# EAGLE library part TESTADAPTER-24P (library con WAGO BMW)
Testadapter mit Pogo Pins um Kontakt mit Wago Leiste herzustellen
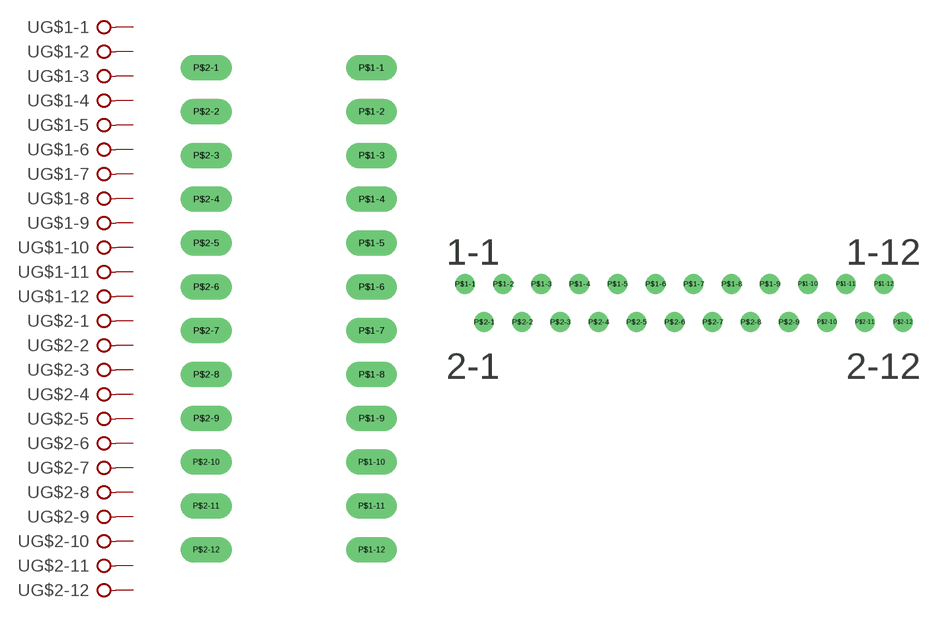
[diagram p1: symbol with the pads of 24-PIN-TESTADAPTER; footprints 24-PIN-TESTADAPTER, 24-PIN-ANSCHLUSS]

Designator prefix -; gates G$1-1=KL G$1-2=KL G$1-3=KL G$1-4=KL G$1-5=KL G$1-6=KL G$1-7=KL G$1-8=KL G$1-9=KL G$1-10=KL G$1-11=KL G$1-12=KL G$2-1=KL G$2-2=KL G$2-3=KL G$2-4=KL G$2-5=KL G$2-6=KL G$2-7=KL G$2-8=KL G$2-9=KL G$2-10=KL G$2-11=KL G$2-12=KL

## TESTADAPTER-24P  [24-PIN-TESTADAPTER]
P$1-1  G$1-1:KL  pas
P$1-2  G$1-2:KL  pas
P$1-3  G$1-3:KL  pas
P$1-4  G$1-4:KL  pas
P$1-5  G$1-5:KL  pas
P$1-6  G$1-6:KL  pas
P$1-7  G$1-7:KL  pas
P$1-8  G$1-8:KL  pas
P$1-9  G$1-9:KL  pas
P$1-10  G$1-10:KL  pas
P$1-11  G$1-11:KL  pas
P$1-12  G$1-12:KL  pas
P$2-1  G$2-1:KL  pas
P$2-2  G$2-2:KL  pas
P$2-3  G$2-3:KL  pas
P$2-4  G$2-4:KL  pas
P$2-5  G$2-5:KL  pas
P$2-6  G$2-6:KL  pas
P$2-7  G$2-7:KL  pas
P$2-8  G$2-8:KL  pas
P$2-9  G$2-9:KL  pas
P$2-10  G$2-10:KL  pas
P$2-11  G$2-11:KL  pas
P$2-12  G$2-12:KL  pas

## TESTADAPTER-24P24-PIN-ANSCHLUSS  [24-PIN-ANSCHLUSS]
Pads as for 24-PIN-TESTADAPTER

## Footprint 24-PIN-TESTADAPTER (pad centres in mm)
drill 1.37 long: P$1-1 6.6,19.25; P$1-2 6.6,15.75; P$1-3 6.6,12.25; P$1-4 6.6,8.75; P$1-5 6.6,5.25; P$1-6 6.6,1.75; P$1-7 6.6,-1.75; P$1-8 6.6,-5.25; P$1-9 6.6,-8.75; P$1-10 6.6,-12.25; P$1-11 6.6,-15.75; P$1-12 6.6,-19.25; P$2-1 -6.6,19.25; P$2-2 -6.6,15.75; P$2-3 -6.6,12.25; P$2-4 -6.6,8.75; P$2-5 -6.6,5.25; P$2-6 -6.6,1.75; P$2-7 -6.6,-1.75; P$2-8 -6.6,-5.25; P$2-9 -6.6,-8.75; P$2-10 -6.6,-12.25; P$2-11 -6.6,-15.75; P$2-12 -6.6,-19.25

## Footprint 24-PIN-ANSCHLUSS (pad centres in mm)
drill 0.8: P$1-1 0,0; P$1-2 2.54,0; P$1-3 5.08,0; P$1-4 7.62,0; P$1-5 10.16,0; P$1-6 12.7,0; P$1-7 15.24,0; P$1-8 17.78,0; P$1-9 20.32,0; P$1-10 22.86,0; P$1-11 25.4,0; P$1-12 27.94,0; P$2-1 1.27,-2.54; P$2-2 3.81,-2.54; P$2-3 6.35,-2.54; P$2-4 8.89,-2.54; P$2-5 11.43,-2.54; P$2-6 13.97,-2.54; P$2-7 16.51,-2.54; P$2-8 19.05,-2.54; P$2-9 21.59,-2.54; P$2-10 24.13,-2.54; P$2-11 26.67,-2.54; P$2-12 29.21,-2.54